# Altium integrated library opto-honeywell-4000.IntLib: 45 symbols
Pins are listed as number, name and electrical type; pins without a type are passive.

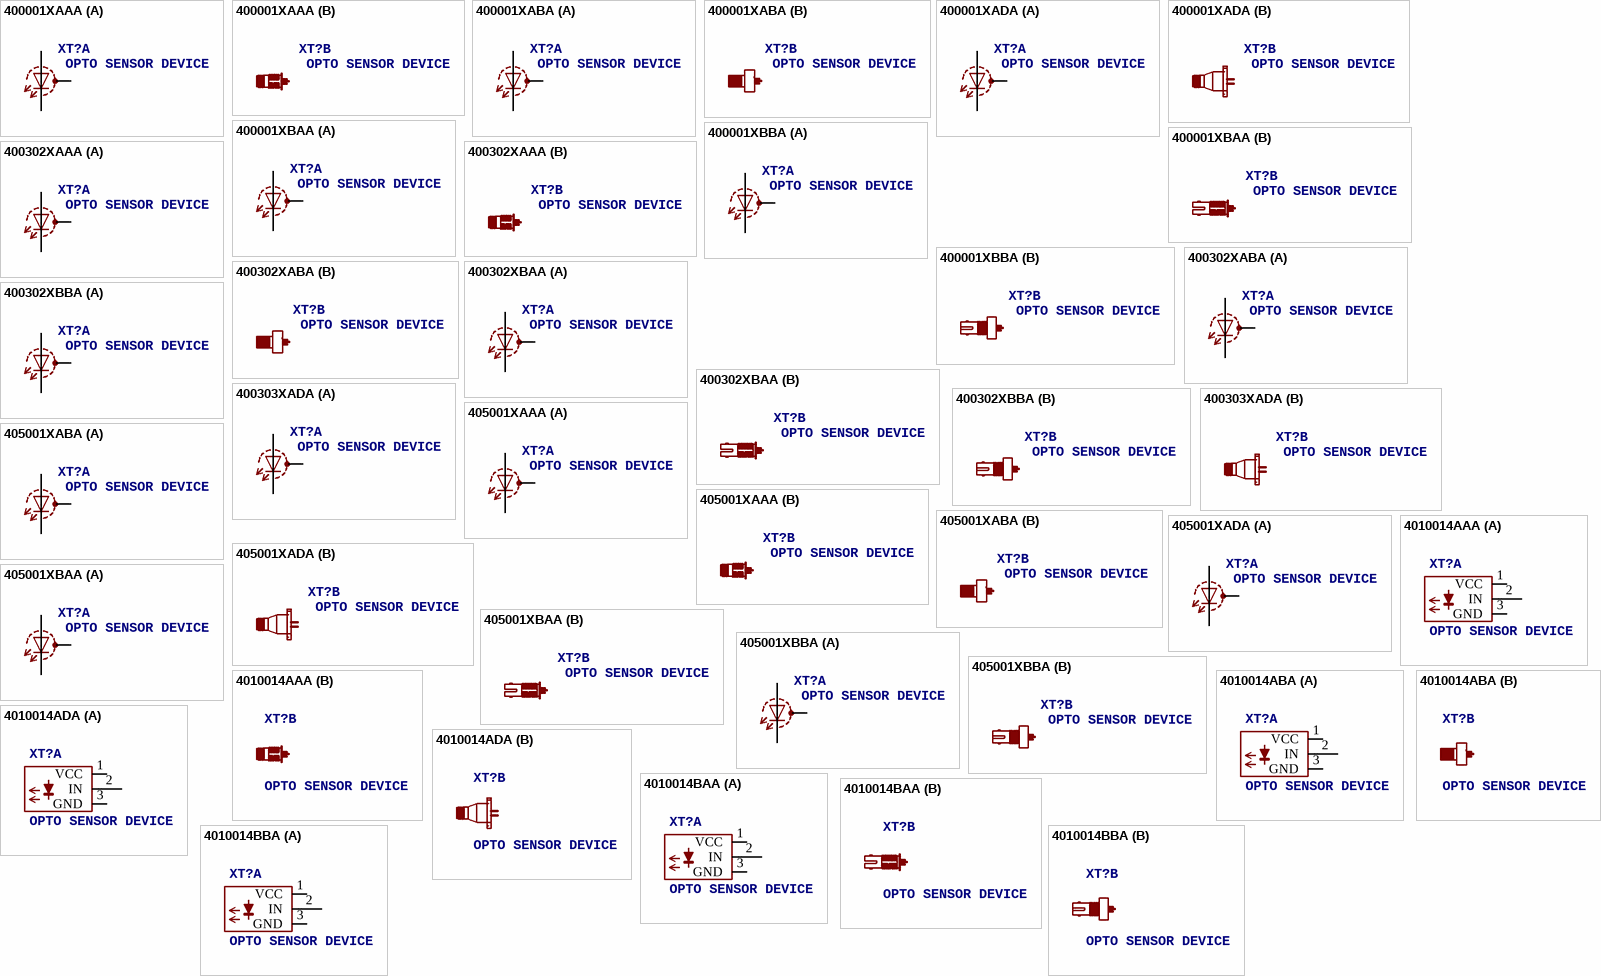
[diagram p0: symbols 400001XAAA to 4010014BBA]

## 400001XAAA
designator XT?, comment OPTO SENSOR DEVICE
OC_FARNELL: unknown; OC_NEWARK: unknown
footprint AAA-3
part A pins: 1 A, 2 C, 3 S

## 400001XABA
designator XT?, comment OPTO SENSOR DEVICE
OC_FARNELL: unknown; OC_NEWARK: unknown
footprint ABA-3
part A pins: 1 A, 2 C, 3 S

## 400001XADA
designator XT?, comment OPTO SENSOR DEVICE
OC_FARNELL: unknown; OC_NEWARK: unknown
footprint ADA-3
part A pins: 1 A, 2 C, 3 S

## 400001XBAA
designator XT?, comment OPTO SENSOR DEVICE
OC_FARNELL: unknown; OC_NEWARK: unknown
footprint BAA-3
part A pins: 1 A, 2 C, 3 S

## 400001XBBA
designator XT?, comment OPTO SENSOR DEVICE
OC_FARNELL: unknown; OC_NEWARK: unknown
footprint BBA-3
part A pins: 1 A, 2 C, 3 S

## 400302XAAA
designator XT?, comment OPTO SENSOR DEVICE
OC_FARNELL: unknown; OC_NEWARK: unknown
footprint AAA-3
part A pins: 1 A, 2 C, 3 S

## 400302XABA
designator XT?, comment OPTO SENSOR DEVICE
OC_FARNELL: unknown; OC_NEWARK: unknown
footprint ABA-3
part A pins: 1 A, 2 C, 3 S

## 400302XBAA
designator XT?, comment OPTO SENSOR DEVICE
OC_FARNELL: unknown; OC_NEWARK: unknown
footprint BAA-3
part A pins: 1 A, 2 C, 3 S

## 400302XBBA
designator XT?, comment OPTO SENSOR DEVICE
OC_FARNELL: unknown; OC_NEWARK: unknown
footprint BBA-3
part A pins: 1 A, 2 C, 3 S

## 400303XADA
designator XT?, comment OPTO SENSOR DEVICE
OC_FARNELL: unknown; OC_NEWARK: unknown
footprint ADA-3
part A pins: 1 A, 2 C, 3 S

## 405001XAAA
designator XT?, comment OPTO SENSOR DEVICE
OC_FARNELL: unknown; OC_NEWARK: unknown
footprint AAA-3
part A pins: 1 A, 2 C, 3 S

## 405001XABA
designator XT?, comment OPTO SENSOR DEVICE
OC_FARNELL: unknown; OC_NEWARK: unknown
footprint ABA-3
part A pins: 1 A, 2 C, 3 S

## 405001XADA
designator XT?, comment OPTO SENSOR DEVICE
OC_FARNELL: unknown; OC_NEWARK: unknown
footprint ADA-3
part A pins: 1 A, 2 C, 3 S

## 405001XBAA
designator XT?, comment OPTO SENSOR DEVICE
OC_FARNELL: unknown; OC_NEWARK: unknown
footprint BAA-3
part A pins: 1 A, 2 C, 3 S

## 405001XBBA
designator XT?, comment OPTO SENSOR DEVICE
OC_FARNELL: unknown; OC_NEWARK: unknown
footprint BBA-3
part A pins: 1 A, 2 C, 3 S

## 4010014AAA
designator XT?, comment OPTO SENSOR DEVICE
OC_FARNELL: unknown; OC_NEWARK: unknown
footprint AAA-3
part A pins: 1 VCC (power), 2 IN, 3 GND (power)

## 4010014ABA
designator XT?, comment OPTO SENSOR DEVICE
OC_FARNELL: unknown; OC_NEWARK: unknown
footprint ABA-3
part A pins: 1 VCC (power), 2 IN, 3 GND (power)

## 4010014ADA
designator XT?, comment OPTO SENSOR DEVICE
OC_FARNELL: unknown; OC_NEWARK: unknown
footprint ADA-3
part A pins: 1 VCC (power), 2 IN, 3 GND (power)

## 4010014BAA
designator XT?, comment OPTO SENSOR DEVICE
OC_FARNELL: unknown; OC_NEWARK: unknown
footprint BAA-3
part A pins: 1 VCC (power), 2 IN, 3 GND (power)

## 4010014BBA
designator XT?, comment OPTO SENSOR DEVICE
OC_FARNELL: unknown; OC_NEWARK: unknown
footprint BBA-3
part A pins: 1 VCC (power), 2 IN, 3 GND (power)

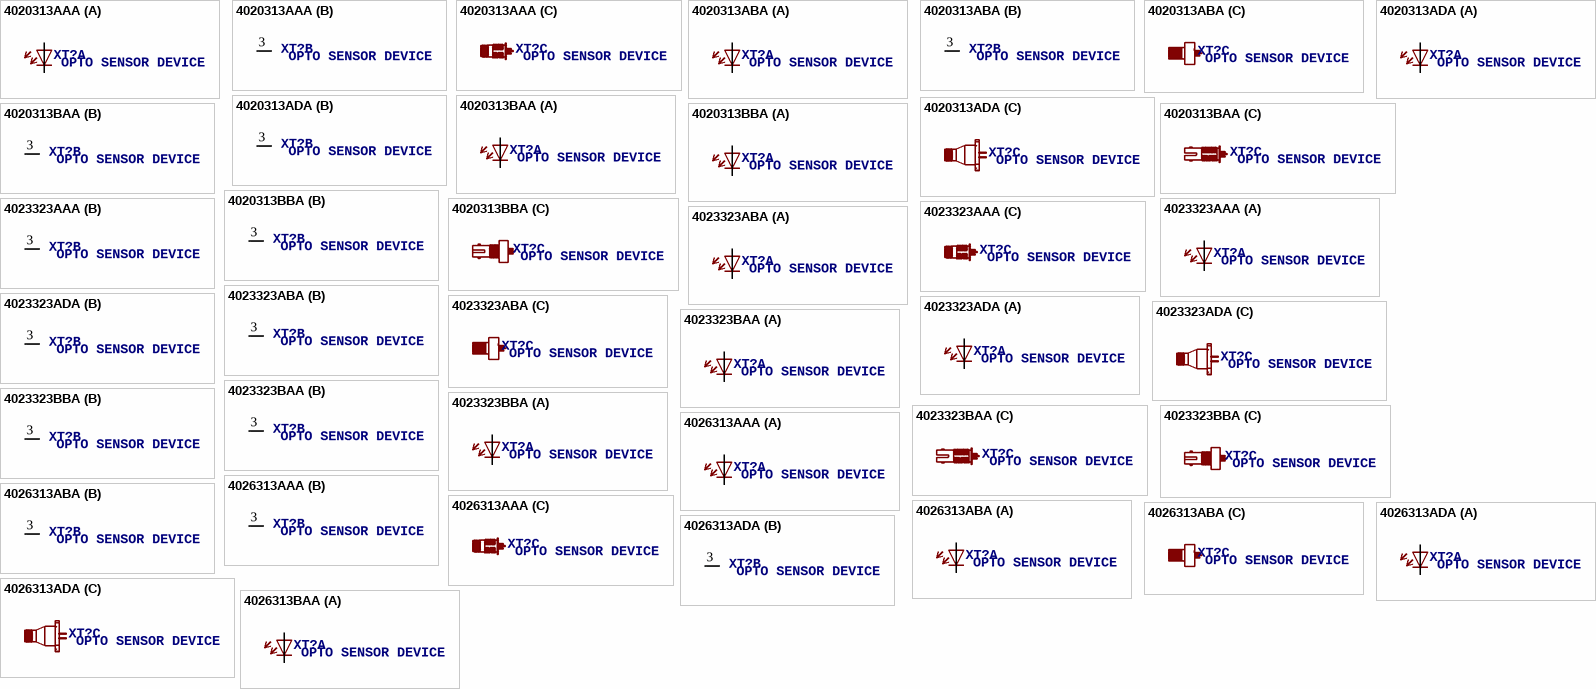
[diagram p1: symbols 4020313AAA to 4026313BAA]

## 4020313AAA
designator XT?, comment OPTO SENSOR DEVICE
OC_FARNELL: unknown; OC_NEWARK: unknown
footprint AAA-3
part A pins: 1 A, 2 C
part B pins: 3 NC

## 4020313ABA
designator XT?, comment OPTO SENSOR DEVICE
OC_FARNELL: unknown; OC_NEWARK: unknown
footprint ABA-3
part A pins: 1 A, 2 C
part B pins: 3 NC

## 4020313ADA
designator XT?, comment OPTO SENSOR DEVICE
OC_FARNELL: unknown; OC_NEWARK: unknown
footprint ADA-3
part A pins: 1 A, 2 C
part B pins: 3 NC

## 4020313BAA
designator XT?, comment OPTO SENSOR DEVICE
OC_FARNELL: unknown; OC_NEWARK: unknown
footprint BAA-3
part A pins: 1 A, 2 C
part B pins: 3 NC

## 4020313BBA
designator XT?, comment OPTO SENSOR DEVICE
MPN: HFE4020-313/BBA; MF: MICRO SWITCH; OC_FARNELL: unknown; OC_NEWARK: 71J4513
footprint BBA-3
part A pins: 1 A, 2 C
part B pins: 3 NC

## 4023323AAA
designator XT?, comment OPTO SENSOR DEVICE
OC_FARNELL: unknown; OC_NEWARK: unknown
footprint AAA-3
part A pins: 1 A, 2 C
part B pins: 3 NC

## 4023323ABA
designator XT?, comment OPTO SENSOR DEVICE
OC_FARNELL: unknown; OC_NEWARK: unknown
footprint ABA-3
part A pins: 1 A, 2 C
part B pins: 3 NC

## 4023323ADA
designator XT?, comment OPTO SENSOR DEVICE
OC_FARNELL: unknown; OC_NEWARK: unknown
footprint ADA-3
part A pins: 1 A, 2 C
part B pins: 3 NC

## 4023323BAA
designator XT?, comment OPTO SENSOR DEVICE
OC_FARNELL: unknown; OC_NEWARK: unknown
footprint BAA-3
part A pins: 1 A, 2 C
part B pins: 3 NC

## 4023323BBA
designator XT?, comment OPTO SENSOR DEVICE
OC_FARNELL: unknown; OC_NEWARK: unknown
footprint BBA-3
part A pins: 1 A, 2 C
part B pins: 3 NC

## 4026313AAA
designator XT?, comment OPTO SENSOR DEVICE
OC_FARNELL: unknown; OC_NEWARK: unknown
footprint AAA-3
part A pins: 1 A, 2 C
part B pins: 3 NC

## 4026313ABA
designator XT?, comment OPTO SENSOR DEVICE
OC_FARNELL: unknown; OC_NEWARK: unknown
footprint ABA-3
part A pins: 1 A, 2 C
part B pins: 3 NC

## 4026313ADA
designator XT?, comment OPTO SENSOR DEVICE
OC_FARNELL: unknown; OC_NEWARK: unknown
footprint ADA-3
part A pins: 1 A, 2 C
part B pins: 3 NC

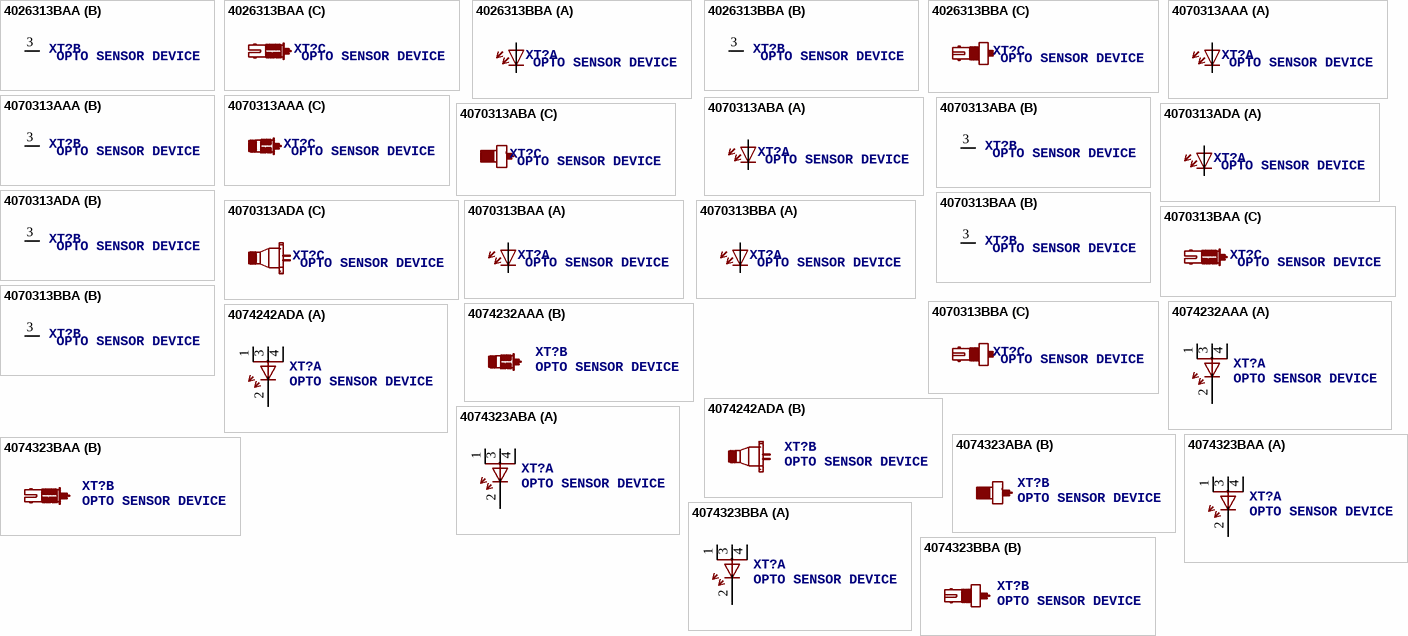
[diagram p2: symbols 4026313BAA to 4074323BBA]

## 4026313BAA
designator XT?, comment OPTO SENSOR DEVICE
OC_FARNELL: unknown; OC_NEWARK: unknown
footprint BAA-3
part A pins: 1 A, 2 C
part B pins: 3 NC

## 4026313BBA
designator XT?, comment OPTO SENSOR DEVICE
OC_FARNELL: unknown; OC_NEWARK: unknown
footprint BBA-3
part A pins: 1 A, 2 C
part B pins: 3 NC

## 4070313AAA
designator XT?, comment OPTO SENSOR DEVICE
OC_FARNELL: unknown; OC_NEWARK: unknown
footprint AAA-3
part A pins: 1 A, 2 C
part B pins: 3 NC

## 4070313ABA
designator XT?, comment OPTO SENSOR DEVICE
OC_FARNELL: unknown; OC_NEWARK: unknown
footprint ABA-3
part A pins: 1 A, 2 C
part B pins: 3 NC

## 4070313ADA
designator XT?, comment OPTO SENSOR DEVICE
OC_FARNELL: unknown; OC_NEWARK: unknown
footprint ADA-3
part A pins: 1 A, 2 C
part B pins: 3 NC

## 4070313BAA
designator XT?, comment OPTO SENSOR DEVICE
OC_FARNELL: unknown; OC_NEWARK: unknown
footprint BAA-3
part A pins: 1 A, 2 C
part B pins: 3 NC

## 4070313BBA
designator XT?, comment OPTO SENSOR DEVICE
MPN: HFE4070-313/BBA; MF: MICRO SWITCH; OC_FARNELL: unknown; OC_NEWARK: 71J4514
footprint BBA-3
part A pins: 1 A, 2 C
part B pins: 3 NC

## 4074232AAA
designator XT?, comment OPTO SENSOR DEVICE
OC_FARNELL: unknown; OC_NEWARK: unknown
footprint AAA-4
part A pins: 1 A1, 2 C, 3 A2, 4 A3

## 4074242ADA
designator XT?, comment OPTO SENSOR DEVICE
OC_FARNELL: unknown; OC_NEWARK: unknown
footprint ADA-4
part A pins: 1 A1, 2 C, 3 A2, 4 A3

## 4074323ABA
designator XT?, comment OPTO SENSOR DEVICE
OC_FARNELL: unknown; OC_NEWARK: unknown
footprint ABA-4
part A pins: 1 A1, 2 C, 3 A2, 4 A3

## 4074323BAA
designator XT?, comment OPTO SENSOR DEVICE
OC_FARNELL: unknown; OC_NEWARK: unknown
footprint BAA-4
part A pins: 1 A1, 2 C, 3 A2, 4 A3

## 4074323BBA
designator XT?, comment OPTO SENSOR DEVICE
OC_FARNELL: unknown; OC_NEWARK: unknown
footprint BBA-4
part A pins: 1 A1, 2 C, 3 A2, 4 A3